# Altium footprint library LPSON_TRAN.PcbLib: 31 footprints (part 1 of 2)
Each footprint in its own frame and in the unit in brackets; x right, y up, seen from the top. Pads: shape width x height; smd on the part's side, far side on the other; paste and mask are expansions set on the pad; w line width, h text height; cw(c..) or ccw(c..) is an arc to the next point about the centre after c.
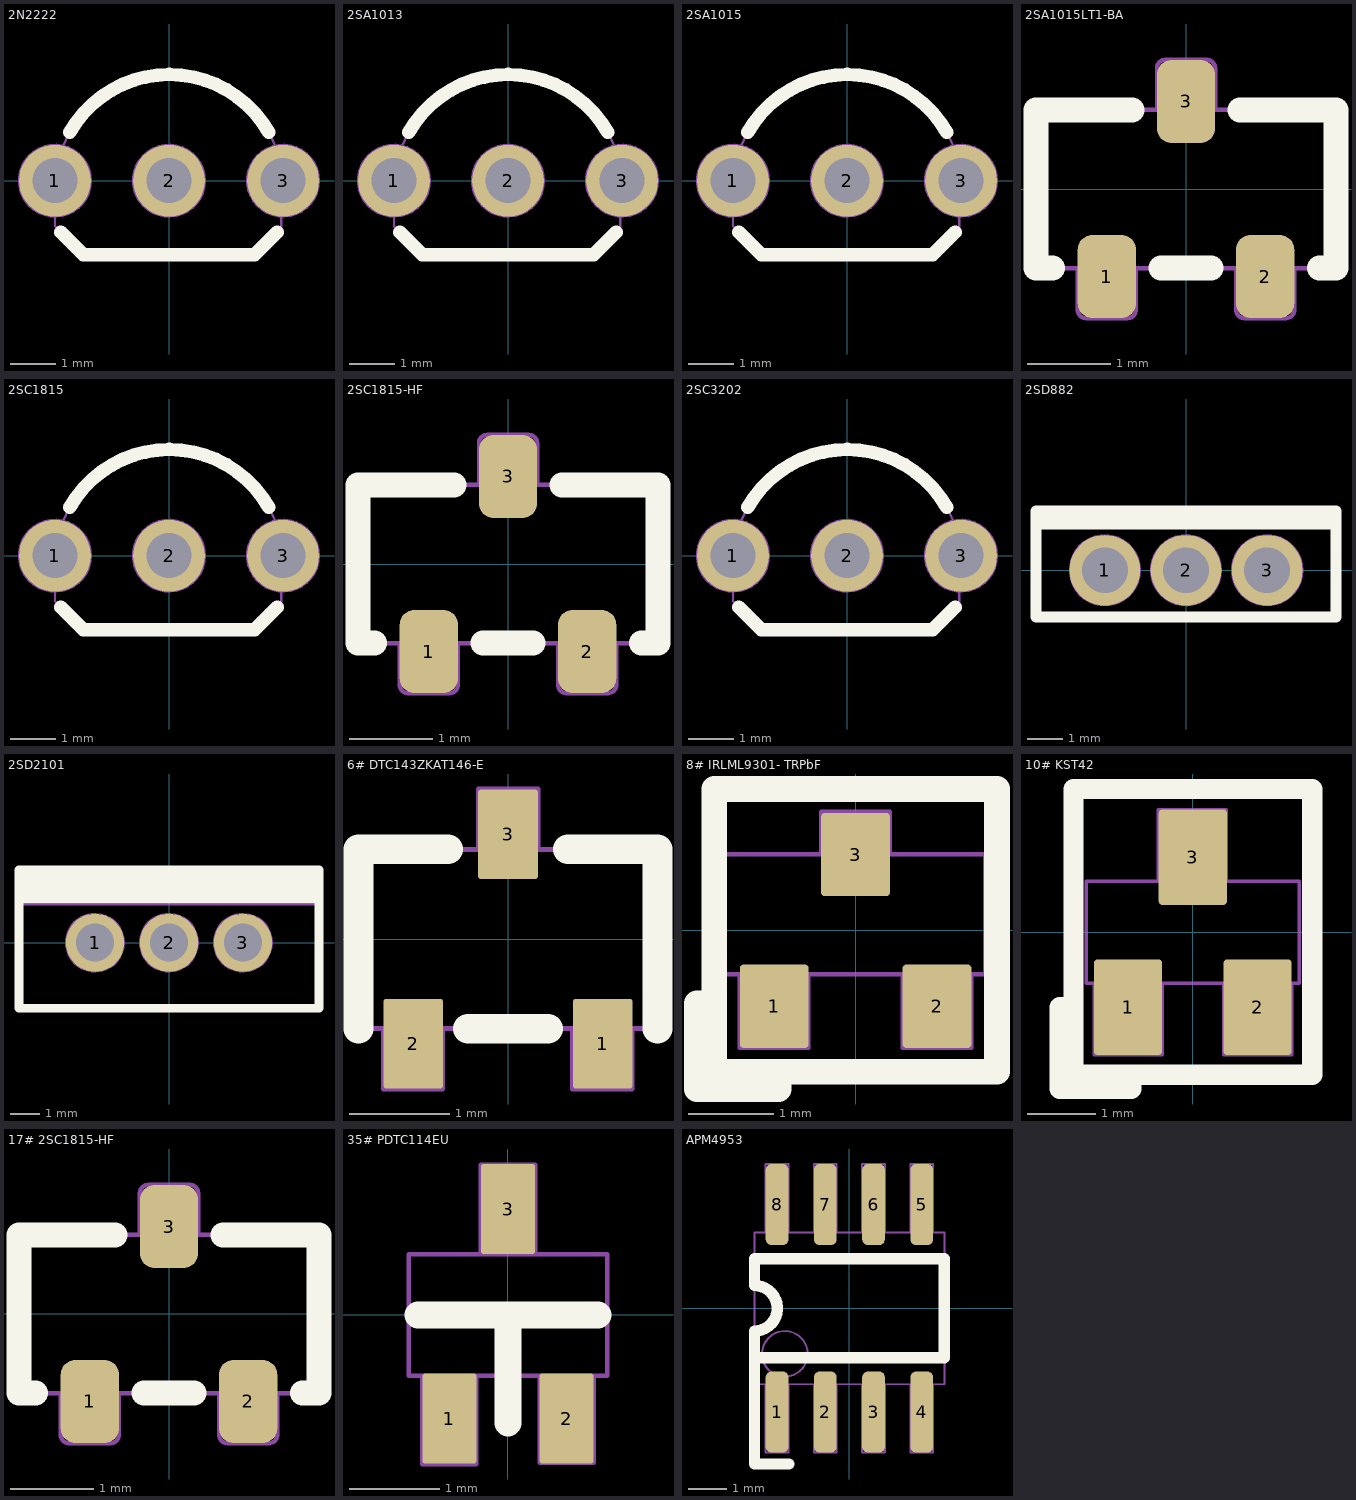
[diagram p0: the footprints below, top view; thin cyan lines are the x and y axes]

## 2N2222 [mm] "TO-92 Bent Lead, Flat Index; 3 In-Line, Axial Leads; Body Dia. 4.5mm; Leads 0.51 x 0.48 mm (max)"
height 6.5
pads (3):
  round 1.6 hole 1 mask+0.1: 1(-2.54,0) 2(0,0)
  round 1.6 hole 1: 3(2.54,0)
Top Overlay:
  lines w0.3: -2.413,-1.143 -1.905,-1.651 1.905,-1.651 2.413,-1.143 ; -2.212,1.074 cw(c0.006,-0.185) 2.221,1.079
Mechanical 1:
  circle w0.05: c2.54,0 r0.8
  circle w0.05: c0,0 r0.8
  circle w0.05: c-2.54,0 r0.8
  lines w0.05: -2.54,-0.8 -2.54,-1.016 -1.905,-1.651 1.905,-1.651 2.5,-1.056 2.5,-0.8 ; -2.351,0.789 cw(c0.006,-0.185) 2.364,0.785
  text "C" at 2.4,-0.4 h0.8
  text "E" at -2.8,-0.4 h0.8
  text "B" at -0.2,-0.4 h0.8
Mechanical 15:
  lines w0.1: -0.5,0 0.5,0 ; 0,-0.5 0,0.5
3D body "TO-92_Bent.STEP": height 10, standoff -3, extent -2.79,-1.59 2.79,2.613

## 2SA1013 [mm] "TO-92 Bent Lead, Flat Index; 3 In-Line, Axial Leads; Body Dia. 4.5mm; Leads 0.51 x 0.48 mm (max)"
height 6.5
pads (3):
  round 1.6 hole 1 mask+0.1: 1(-2.54,0) 2(0,0)
  round 1.6 hole 1: 3(2.54,0)
Top Overlay:
  lines w0.3: -2.413,-1.143 -1.905,-1.651 1.905,-1.651 2.413,-1.143 ; -2.212,1.074 cw(c0.006,-0.185) 2.221,1.079
Mechanical 1:
  circle w0.05: c2.54,0 r0.8
  circle w0.05: c0,0 r0.8
  circle w0.05: c-2.54,0 r0.8
  lines w0.05: -2.54,-0.8 -2.54,-1.016 -1.905,-1.651 1.905,-1.651 2.5,-1.056 2.5,-0.8 ; -2.351,0.789 cw(c0.006,-0.185) 2.364,0.785
  text "E" at -2.794,-0.381 h0.8
  text "C" at -0.254,-0.381 h0.8
  text "B" at 2.286,-0.381 h0.8
Mechanical 15:
  lines w0.1: -0.5,0 0.5,0 ; 0,-0.5 0,0.5
3D body "TO-92_Bent.STEP": height 10, standoff -3, extent -2.79,-1.59 2.79,2.613

## 2SA1015 [mm] "TO-92 Bent Lead, Body Dia. 4.5mm; Leads 0.51 x 0.48 mm (max)"
height 6.5
pads (3):
  round 1.6 hole 1 mask+0.1: 1(-2.54,0) 2(0,0)
  round 1.6 hole 1: 3(2.54,0)
Top Overlay:
  lines w0.3: -2.413,-1.143 -1.905,-1.651 1.905,-1.651 2.413,-1.143 ; -2.212,1.074 cw(c0.006,-0.185) 2.221,1.079
Mechanical 1:
  circle w0.05: c-2.54,0 r0.8
  circle w0.05: c0,0 r0.8
  circle w0.05: c2.54,0 r0.8
  lines w0.05: -2.54,-0.8 -2.54,-1.016 -1.905,-1.651 1.905,-1.651 2.5,-1.056 2.5,-0.8 ; -2.351,0.789 cw(c0.006,-0.185) 2.364,0.785
  text "B" at 2.286,-0.381 h0.8
  text "C" at -0.254,-0.381 h0.8
  text "E" at -2.794,-0.381 h0.8
Mechanical 15:
  lines w0.1: -0.5,0 0.5,0 ; 0,-0.5 0,0.5
3D body "TO-92_Bent.STEP": height 10, standoff -3, extent -2.79,-1.59 2.79,2.613

## 2SA1015LT1-BA [mm] "SOT23-3"
height 1.4
pads (3):
  rrect50% 0.7x1 smd: 1(-0.95,-1.05) 2(0.95,-1.05) 3(0,1.05)
Top Overlay:
  lines w0.3: -1.6,-0.95 -1.8,-0.95 -1.8,0.95 -0.65,0.95 ; -0.3,-0.95 0.3,-0.95 ; 0.65,0.95 1.8,0.95 1.8,-0.95 1.6,-0.95
Mechanical 1:
  lines w0.05: -1.3,-0.95 -1.3,-1.45 ccw(c-1.2,-1.45) -1.2,-1.55 -0.7,-1.55 ccw(c-0.7,-1.45) -0.6,-1.45 -0.6,-0.95 ; -0.35,0.95 -0.35,1.45 cw(c-0.25,1.45) -0.25,1.55 0.25,1.55 cw(c0.25,1.45) 0.35,1.45 0.35,0.95 ; 0.6,-0.95 0.6,-1.45 ccw(c0.7,-1.45) 0.7,-1.55 1.2,-1.55 ccw(c1.2,-1.45) 1.3,-1.45 1.3,-0.95 ; -1.8,-0.95 -1.8,0.95 1.8,0.95 1.8,-0.95 -1.8,-0.95
  text "E" at 0.82,-0.82 h0.5
  text "B" at -1.09,-0.82 h0.5
  text "C" at -0.13,0.33 h0.5
  text "Q?" at 0,0 h0.5
3D body "User Library-SOT95P240X110-3M[SOT23-3_TO-236AB].step": height 1.09, standoff 0, extent -1.5,-1.25 1.5,1.25

## 2SC1815 [mm] "TO-92 Body Dia. 4.5mm; Leads 0.51 x 0.48 mm (max)"
height 6.5
pads (3):
  round 1.6 hole 1 mask+0.1: 1(-2.54,0) 2(0,0)
  round 1.6 hole 1: 3(2.54,0)
Top Overlay:
  lines w0.3: -2.413,-1.143 -1.905,-1.651 1.905,-1.651 2.413,-1.143 ; -2.212,1.074 cw(c0.006,-0.185) 2.221,1.079
Mechanical 1:
  circle w0.05: c-2.54,0 r0.8
  circle w0.05: c0,0 r0.8
  circle w0.05: c2.54,0 r0.8
  lines w0.05: -2.54,-0.8 -2.54,-1.016 -1.905,-1.651 1.905,-1.651 2.5,-1.056 2.5,-0.8 ; -2.351,0.789 cw(c0.006,-0.185) 2.364,0.785
  text "B" at 2.286,-0.381 h0.8
  text "C" at -0.254,-0.381 h0.8
  text "E" at -2.794,-0.381 h0.8
Mechanical 15:
  lines w0.1: -0.5,0 0.5,0 ; 0,-0.5 0,0.5
3D body "TO-92_Bent.STEP": height 10, standoff -3, extent -2.79,-1.59 2.79,2.613

## 2SC1815-HF [mm] "SOT23-3"
height 1.4
pads (3):
  rrect50% 0.7x1 smd: 1(-0.95,-1.05) 2(0.95,-1.05) 3(0,1.05)
Top Overlay:
  lines w0.3: -1.6,-0.95 -1.8,-0.95 -1.8,0.95 -0.65,0.95 ; -0.3,-0.95 0.3,-0.95 ; 0.65,0.95 1.8,0.95 1.8,-0.95 1.6,-0.95
Mechanical 2:
  lines w0.05: -1.3,-0.95 -1.3,-1.45 ccw(c-1.2,-1.45) -1.2,-1.55 -0.7,-1.55 ccw(c-0.7,-1.45) -0.6,-1.45 -0.6,-0.95 ; -0.35,0.95 -0.35,1.45 cw(c-0.25,1.45) -0.25,1.55 0.25,1.55 cw(c0.25,1.45) 0.35,1.45 0.35,0.95 ; 0.6,-0.95 0.6,-1.45 ccw(c0.7,-1.45) 0.7,-1.55 1.2,-1.55 ccw(c1.2,-1.45) 1.3,-1.45 1.3,-0.95 ; -1.8,-0.95 -1.8,0.95 1.8,0.95 1.8,-0.95 -1.8,-0.95
  text "B" at -1.14,-0.855 h0.5
  text "E" at 0.76,-0.855 h0.5
  text "C" at -0.15,0.3 h0.5
3D body "SOT23.STEP": height 1.08, standoff 0, extent -1.5,-1.32 1.5,1.32

## 2SC3202 [mm] "TO-92 Bent Lead, Flat Index; 3 In-Line, Axial Leads; Body Dia. 4.5mm; Leads 0.51 x 0.48 mm (max)"
height 6.5
pads (3):
  round 1.6 hole 1 mask+0.1: 1(-2.54,0) 2(0,0)
  round 1.6 hole 1: 3(2.54,0)
Top Overlay:
  lines w0.3: -2.413,-1.143 -1.905,-1.651 1.905,-1.651 2.413,-1.143 ; -2.212,1.074 cw(c0.006,-0.185) 2.221,1.079
Mechanical 1:
  circle w0.05: c2.54,0 r0.8
  circle w0.05: c0,0 r0.8
  circle w0.05: c-2.54,0 r0.8
  lines w0.05: -2.54,-0.8 -2.54,-1.016 -1.905,-1.651 1.905,-1.651 2.5,-1.056 2.5,-0.8 ; -2.351,0.789 cw(c0.006,-0.185) 2.364,0.785
  text "E" at -2.794,-0.381 h0.8
  text "C" at -0.254,-0.381 h0.8
  text "B" at 2.286,-0.381 h0.8
Mechanical 15:
  lines w0.1: -0.5,0 0.5,0 ; 0,-0.5 0,0.5
3D body "TO-92_Bent.STEP": height 10, standoff -3, extent -2.79,-1.59 2.79,2.613

## 2SD882 [mm] "SOT-32"
height 12
pads (3):
  round 2 hole 1.3: 1(-2.3,0) 2(0,0) 3(2.3,0)
Top Overlay:
  lines w0.3: -4.25,1.3 4.25,1.3 ; -4.25,1.475 4.25,1.475 ; -4.25,1.6 4.25,1.6 ; -4.25,-1.325 -4.25,1.68 4.25,1.68 4.25,-1.325 -4.25,-1.325
Mechanical 1:
  circle w0.05: c-2.3,0 r1
  circle w0.05: c0,0 r1
  circle w0.05: c2.3,0 r1
  lines w0.05: -4.25,1.2 4.25,1.2 ; -4.25,-1.325 -4.25,1.475 4.25,1.475 4.25,-1.325 -4.25,-1.325
  text "E" at -2.554,-0.254 h1.2
  text "C" at -0.254,-0.254 h1.2
  text "B" at 2.046,-0.254 h1.2
3D body "30156.stp": height 14.5, standoff -10.5, extent -4.25,-1.6 4.25,1.2

## 2SD2101 [mm] "TO-220FM"
height 17.3
pads (3):
  round 2 hole 1.3: 1(-2.54,0) 2(0,0) 3(2.54,0)
Top Overlay:
  lines w0.3: -5.15,1.5 5.15,1.5 ; -5.15,1.6 5.15,1.6 ; -5.15,1.9 5.15,1.9 ; -5.15,2.2 5.15,2.2 ; -5.15,2.5 5.15,2.5 ; -5.15,2.5 5.15,2.5 ; -5.15,2.5 -5.15,-2.25 5.15,-2.25 5.15,2.5
Mechanical 1:
  circle w0.05: c-2.54,0 r1
  circle w0.05: c0,0 r1
  circle w0.05: c2.54,0 r1
  lines w0.05: -5.15,1.3 5.15,1.3 ; -5.15,1.6 5.15,1.6 ; -5.15,1.9 5.15,1.9 ; -5.15,2.2 5.15,2.2 ; -5.15,-2.25 5.15,-2.25 5.15,2.5 -5.15,2.5 -5.15,-2.25
  text "B" at -2.8,-0.5 h1
  text "C" at -0.3,-0.5 h1
  text "E" at 2.3,-0.5 h1
3D body "User Library-TO-220-4.STEP": height 17.06, standoff -11.74, extent -5.1,-2.2 5.1,2.3

## 6# DTC143ZKAT146-E [mm] "SOT-346 SMT3"
height 1
pads (3):
  rrect10% 0.6x0.9 smd mask+0.05: 1(0.95,-1.05) 2(-0.95,-1.05) 3(0,1.05)
Top Overlay:
  lines w0.3: -1.5,-0.9 -1.5,0.9 -0.6,0.9 ; -0.4,-0.9 0.4,-0.9 ; 0.6,0.9 1.5,0.9 1.5,-0.9
Mechanical 2:
  lines w0.05: -1.251,-0.9 -1.251,-1.504 -0.656,-1.504 -0.656,-0.899 ; -0.294,0.899 -0.294,1.504 0.301,1.504 0.301,0.9 ; 0.649,-0.9 0.649,-1.504 1.244,-1.504 1.244,-0.899 ; -1.5,-0.9 1.5,-0.9 1.5,0.9 -1.5,0.9 -1.5,-0.9
  text "E" at -1.1,-0.7 h0.4
  text "B" at 0.9,-0.8 h0.4
  text "C" at -0.15,0.4 h0.4
3D body "User Library-User Library-SOT-346T.STEP": height 1.2, standoff 0, extent -1.45,-1.4 1.45,1.4

## 8# IRLML9301- TRPbF [mm] "SOT-23"
height 1.12
pads (3):
  rrect10% 0.802x0.972 smd mask+0.1: 1(-0.95,-0.885) 2(0.95,-0.885) 3(0,0.885)
Top Overlay:
  lines w0.3: -1.65,-0.85 -1.85,-0.85 -1.85,-1.85 -0.9,-1.85 -0.9,-1.65 ; -1.65,-1.65 -1.65,1.65 1.65,1.65 1.65,-1.65 -1.65,-1.65
Mechanical 2:
  lines w0.05: 0.549,-0.51 0.549,-1.371 1.351,-1.371 1.351,-0.51 ; -1.351,-1.371 -1.351,-0.51 ; -1.351,-1.371 -0.549,-1.371 ; -1.351,-1.371 -0.549,-1.371 ; -1.351,-1.371 -1.351,-0.51 ; -1.351,-1.371 -0.549,-1.371 ; -1.351,-1.371 -1.351,-0.51 ; -0.549,-1.371 -0.549,-0.51 ; -0.549,-1.371 -0.549,-0.51 ; -0.549,-1.371 -0.549,-0.51 ; -1.526,-0.51 -0.766,-0.51 0.754,-0.51 1.514,-0.51 1.514,0.89 0.754,0.89 -0.766,0.89 -1.526,0.89 -1.526,-0.51 ; -0.401,0.89 0.401,0.89 0.401,1.385 -0.401,1.385 -0.401,0.89
  text "G" at -1.08,-0.385 h0.5
  text "S" at 0.84,-0.325 h0.5
  text "D" at -0.097,0.272 h0.5
3D body "CircuitWorks-SOT-23.step": height 1.15, standoff 0.05, extent -1.498,-1.257 1.502,1.243

## 10# KST42 [mm] "SOT-23"
height 1.2
pads (3):
  rrect10% 1x1.4 smd mask+0.1: 1(-0.95,-1.1) 2(0.95,-1.1) 3(0,1.1)
Top Overlay:
  lines w0.3: -1.75,-1.1 -1.95,-1.1 -1.95,-2.3 -0.9,-2.3 -0.9,-2.1 ; -1.75,-2.093 -1.75,2.1 1.75,2.1 1.75,-2.093 -1.75,-2.093
Mechanical 2:
  lines w0.05: -1.45,-0.75 -1.45,-1.8 -0.45,-1.8 -0.45,-0.75 ; -0.51,0.75 -0.51,1.8 0.49,1.8 0.49,0.759 ; 0.45,-0.75 0.45,-1.8 1.45,-1.8 1.45,-0.75 ; -1.56,-0.75 -1.56,0.75 1.56,0.75 1.56,-0.75 -1.56,-0.75
  text "B" at -1.08,-0.6 h0.5
  text "E" at 0.9,-0.6 h0.5
  text "C" at -0.121,0.086 h0.5
3D body "User Library-SOT95P280X135-3M[SOT23_TO-236AA].step": height 1.3, standoff 0, extent -1.5,-1.5 1.5,1.5

## 17# 2SC1815-HF [mm] "SOT23-3"
height 1.4
pads (3):
  rrect50% 0.7x1 smd: 1(-0.95,-1.05) 2(0.95,-1.05) 3(0,1.05)
Top Overlay:
  lines w0.3: -1.6,-0.95 -1.8,-0.95 -1.8,0.95 -0.65,0.95 ; -0.3,-0.95 0.3,-0.95 ; 0.65,0.95 1.8,0.95 1.8,-0.95 1.6,-0.95
Mechanical 2:
  lines w0.05: -1.3,-0.95 -1.3,-1.45 ccw(c-1.2,-1.45) -1.2,-1.55 -0.7,-1.55 ccw(c-0.7,-1.45) -0.6,-1.45 -0.6,-0.95 ; -0.35,0.95 -0.35,1.45 cw(c-0.25,1.45) -0.25,1.55 0.25,1.55 cw(c0.25,1.45) 0.35,1.45 0.35,0.95 ; 0.6,-0.95 0.6,-1.45 ccw(c0.7,-1.45) 0.7,-1.55 1.2,-1.55 ccw(c1.2,-1.45) 1.3,-1.45 1.3,-0.95 ; -1.8,-0.95 1.8,-0.95 1.8,0.95 -1.8,0.95 -1.8,-0.95
  text "C" at -0.15,0.3 h0.5
  text "E" at 0.76,-0.855 h0.5
  text "B" at -1.14,-0.855 h0.5
3D body "SOT23.STEP": height 1.08, standoff 0, extent -1.5,-1.32 1.5,1.32

## 35# PDTC114EU [mm] "SOT323"
height 1.1
pads (3):
  rrect10% 0.6x1 smd mask+0.1: 1(-0.65,-1.15) 2(0.65,-1.15) 3(0,1.175)
Top Overlay:
  lines w0.3: -1,0 1,0 ; 0,-1.2 0,0
Mechanical 2:
  lines w0.05: -1.1,-0.675 1.1,-0.675 1.1,0.675 -1.1,0.675 -1.1,-0.675 ; -0.95,-1.655 -0.35,-1.655 -0.35,-0.675 -0.95,-0.675 -0.95,-1.655 ; -0.3,0.675 0.3,0.675 0.3,1.666 -0.3,1.666 -0.3,0.675 ; 0.35,-1.643 0.35,-0.675 0.95,-0.675 0.95,-1.643 0.35,-1.643
  text "C" at -0.15,0.075 h0.5
  text "E" at 0.55,-0.525 h0.5
  text "B" at -0.85,-0.525 h0.5
3D body "User Library-sc70-3.step": height 1, standoff 0, extent -1.05,-1.15 1.05,1.15

## 78M05 TO252 [mm] "78M05 TO252 1.5A"

## APM4953 [mm] "Dual P-Channel Enhancement Mode Mosfet"
height 1.75
pads (8):
  rrect50% 0.6x2.135 smd mask+0.1: 1(-1.905,-2.732) 2(-0.635,-2.732) 3(0.635,-2.732) 4(1.905,-2.732) 5(1.905,2.733) 6(0.635,2.733) 7(-0.635,2.733) 8(-1.905,2.733)
Top Overlay:
  lines w0.3: -1.6,-4.1 -2.5,-4.1 -2.5,-1.3 ; -2.5,-1.3 -2.5,-0.6 ccw(c-2.5,0) -2.5,0.6 -2.5,1.3 2.5,1.3 2.5,-1.3 -2.5,-1.3
Mechanical 1:
  circle w0.05: c-1.7,-1.2 r0.6
  lines w0.05: -2.5,-0.6 ccw(c-2.5,0) -2.5,0.6 ; -2.5,-2 -2.5,2 2.5,2 2.5,-2 -2.5,-2 ; -2.205,-3.8 -2.205,-2 -1.605,-2 -1.605,-3.8 -2.205,-3.8 ; -2.205,2 -1.605,2 -1.605,3.8 -2.205,3.8 -2.205,2 ; -0.935,-3.8 -0.335,-3.8 -0.335,-2 -0.935,-2 -0.935,-3.8 ; -0.935,2 -0.335,2 -0.335,3.8 -0.935,3.8 -0.935,2 ; 0.335,-3.8 0.935,-3.8 0.935,-2 0.335,-2 0.335,-3.8 ; 0.335,2 0.935,2 0.935,3.8 0.335,3.8 0.335,2 ; 1.605,-3.8 2.205,-3.8 2.205,-2 1.605,-2 1.605,-3.8 ; 1.605,2 2.205,2 2.205,3.8 1.605,3.8 1.605,2
  text "4" at 1.6,-1.8 h0.8
  text "5" at 1.6,1 h0.8
  text "8" at -2.2,1.1 h0.8
3D body "User Library-sop-8.step": height 1.6, standoff 0, extent -2.61,-3.221 2.41,2.821